# Altium footprint library Pinger Footprints.PcbLib: 11 footprints
Each footprint in its own frame and in the unit in brackets; x right, y up, seen from the top. Pads: shape width x height; smd on the part's side, far side on the other; paste and mask are expansions set on the pad; w line width, h text height; cw(c..) or ccw(c..) is an arc to the next point about the centre after c.
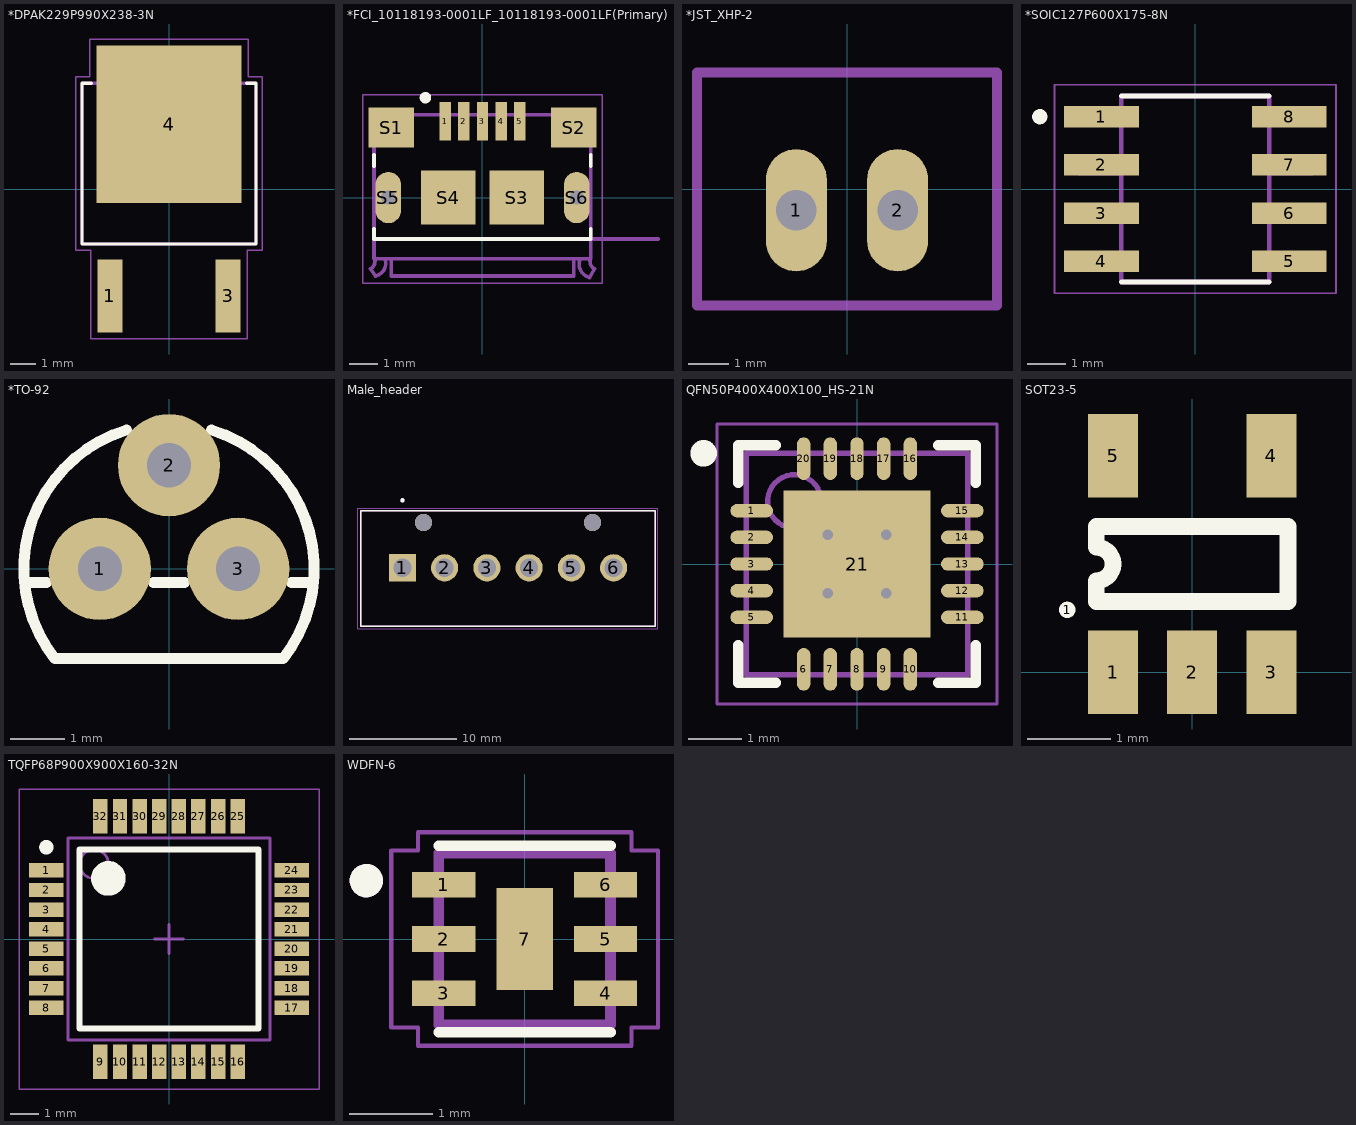
[diagram p0: the footprints below, top view; thin cyan lines are the x and y axes]

## *DPAK229P990X238-3N [mm]
pads (3):
  rect 0.97x2.83 smd: 1(-2.29,-4.14) 3(2.29,-4.14)
  rect 5.63x6.09 smd: 4(0,2.51)
Top Overlay:
  lines w0.127: -3,4.093 -3.37,4.093 -3.37,-2.128 3.37,-2.128 3.37,4.093 3,4.093
Mechanical 4:
  lines w0.127: -3.37,-2.128 -3.37,4.093 ; -3.37,-2.128 3.37,-2.128 ; -3.37,-2.128 -3.37,4.093 ; -3.37,-2.128 3.37,-2.128 ; -3.37,4.093 3.37,4.093 ; -3.37,4.093 3.37,4.093 ; 3.37,-2.128 3.37,4.093 ; 3.37,-2.128 3.37,4.093
Mechanical 16:
  lines w0.05: -3.62,-2.38 -3.62,4.35 -3.07,4.35 -3.07,5.81 3.07,5.81 3.07,4.35 3.62,4.35 3.62,-2.38 3.03,-2.38 3.03,-5.81 -3.03,-5.81 -3.03,-2.38 -3.62,-2.38

## *FCI_10118193-0001LF_10118193-0001LF(Primary) [mm]
pads (13):
  rect 0.4x1.35 smd: 1(-1.3,2.675) 2(-0.65,2.675) 3(0,2.675) 4(0.65,2.675) 5(1.3,2.675)
  round 0.5 hole 0.5 unplated: None(-3.3,0) None(3.3,0)
  rect 1.6x1.4 smd: S1(-3.2,2.45) S2(3.2,2.45)
  rect 1.9x1.9 smd: S3(1.2,0) S4(-1.2,0)
  oval 0.9x1.8 hole 0.5: S5(-3.3,0) S6(3.3,0)
Top Overlay:
  circle w0.2: c-2,3.5 r0.1
  lines w0.127: -3.8,-1.45 3.8,-1.45 ; -3.8,-1.4 -3.8,-1.1 ; -3.8,1.1 -3.8,1.5 ; 3.8,-1.4 3.8,-1.1 ; 3.8,1.1 3.8,1.5
Mechanical 1:
  lines w0: -3.55,-0.35 ccw(c-3.3,-0.35) -3.3,-0.6 ccw(c-3.3,-0.35) -3.05,-0.35 -3.05,0.35 ccw(c-3.3,0.35) -3.3,0.6 ccw(c-3.3,0.35) -3.55,0.35 -3.55,-0.35 ; 3.05,-0.35 ccw(c3.3,-0.35) 3.3,-0.6 ccw(c3.3,-0.35) 3.55,-0.35 3.55,0.35 ccw(c3.3,0.35) 3.3,0.6 ccw(c3.3,0.35) 3.05,0.35 3.05,-0.35
Mechanical 4:
  lines w0.127: -3.8,-2.15 3.8,-2.15 ; -3.8,-2.15 -3.8,-2.1 ; -3.8,-2.15 3.8,-2.15 ; -3.8,-2.15 -3.8,-2.1 ; -3.8,-2.1 cw(c-4.065,-2.235) -3.93,-2.5 ccw(c-4.065,-2.235) -3.8,-2.1 ; -3.8,-2.1 -3.8,2.9 ; -3.8,-2.1 -3.8,2.9 ; -3.8,2.9 3.8,2.9 ; -3.8,2.9 3.8,2.9 ; -3.2,-2.75 -3.2,-2.2 -3.2,-2.75 ; -3.2,-2.75 3.2,-2.75 ; -3.2,-2.75 3.2,-2.75 ; 3.2,-2.75 3.2,-2.2 3.2,-2.75 ; 3.8,-2.15 3.8,-1.45 ; 3.8,-2.15 3.8,-1.45 ; 3.8,-1.45 3.8,2.9 ; 3.8,-1.45 6.15,-1.45 3.8,-1.45 ; 3.8,-1.45 3.8,2.9 ; -3.93,-2.5 -3.75,-2.75 -3.93,-2.5 ; -3.746,-2.749 ccw(c-3.85,-2.3) -3.401,-2.196 cw(c-3.85,-2.3) -3.746,-2.749 ; 3.401,-2.198 ccw(c3.875,-2.325) 3.748,-2.799 cw(c3.875,-2.325) 3.401,-2.198 ; 3.75,-2.8 3.93,-2.5 3.75,-2.8 ; 3.8,-2.1 ccw(c4.065,-2.235) 3.93,-2.5 cw(c4.065,-2.235) 3.8,-2.1
  text "PCB END" at 4.75,-1.55 h1.88
  text "PCB END" at 4.75,-1.55 h1.88
Mechanical 16:
  lines w0.05: -4.2,-3 -4.2,3.6 4.2,3.6 4.2,-3 -4.2,-3

## *JST_XHP-2 [mm]
pads (2):
  oval 1.508x3.016 hole 1: 1(-1.25,-0.525) 2(1.25,-0.525)
Mechanical 4:
  lines w0.254: -3.7,-2.875 -3.7,2.875 ; -3.7,-2.875 3.7,-2.875 ; -3.7,-2.875 -3.7,2.875 ; -3.7,-2.875 3.7,-2.875 ; -3.7,2.875 3.7,2.875 ; -3.7,2.875 3.7,2.875 ; 3.7,-2.875 3.7,2.875 ; 3.7,-2.875 3.7,2.875

## *SOIC127P600X175-8N [mm]
pads (8):
  rect 1.97x0.57 smd: 1(-2.475,1.905) 2(-2.475,0.635) 3(-2.475,-0.635) 4(-2.475,-1.905) 5(2.475,-1.905) 6(2.475,-0.635) 7(2.475,0.635) 8(2.475,1.905)
Top Overlay:
  circle w0.2: c-4.1,1.905 r0.1
  lines w0.127: -1.95,-2.45 1.95,-2.45 ; -1.95,2.45 1.95,2.45
Mechanical 4:
  lines w0: -3.099,-2.159 -2.007,-2.159 ; -3.099,-2.159 -3.099,-1.651 ; -3.099,-2.159 -2.007,-2.159 ; -3.099,-2.159 -3.099,-1.651 ; -3.099,-1.651 -2.007,-1.651 ; -3.099,-1.651 -2.007,-1.651 ; -3.099,-0.889 -2.007,-0.889 ; -3.099,-0.889 -3.099,-0.381 ; -3.099,-0.889 -2.007,-0.889 ; -3.099,-0.889 -3.099,-0.381 ; -3.099,-0.381 -2.007,-0.381 ; -3.099,-0.381 -2.007,-0.381 ; -3.099,0.381 -2.007,0.381 ; -3.099,0.381 -3.099,0.889 ; -3.099,0.381 -2.007,0.381 ; -3.099,0.381 -3.099,0.889 ; -3.099,0.889 -2.007,0.889 ; -3.099,0.889 -2.007,0.889 ; -3.099,1.651 -2.007,1.651 ; -3.099,1.651 -3.099,2.159 ; -3.099,1.651 -2.007,1.651 ; -3.099,1.651 -3.099,2.159 ; -3.099,2.159 -2.007,2.159 ; -3.099,2.159 -2.007,2.159 ; -2.007,-2.159 -2.007,-1.651 ; -2.007,-2.159 -2.007,-1.651 ; -2.007,-0.889 -2.007,-0.381 ; -2.007,-0.889 -2.007,-0.381 ; -2.007,0.381 -2.007,0.889 ; -2.007,0.381 -2.007,0.889 ; -2.007,1.651 -2.007,2.159 ; -2.007,1.651 -2.007,2.159 ; 2.007,-2.159 3.099,-2.159 ; 2.007,-2.159 2.007,-1.651 ; 2.007,-2.159 3.099,-2.159 ; 2.007,-2.159 2.007,-1.651 ; 2.007,-1.651 3.099,-1.651 ; 2.007,-1.651 3.099,-1.651 ; 2.007,-0.889 3.099,-0.889 ; 2.007,-0.889 2.007,-0.381 ; 2.007,-0.889 3.099,-0.889 ; 2.007,-0.889 2.007,-0.381 ; 2.007,-0.381 3.099,-0.381 ; 2.007,-0.381 3.099,-0.381 ; 2.007,0.381 3.099,0.381 ; 2.007,0.381 2.007,0.889 ; 2.007,0.381 3.099,0.381 ; 2.007,0.381 2.007,0.889 ; 2.007,0.889 3.099,0.889 ; 2.007,0.889 3.099,0.889 ; 2.007,1.651 3.099,1.651 ; 2.007,1.651 2.007,2.159 ; 2.007,1.651 3.099,1.651 ; 2.007,1.651 2.007,2.159 ; 2.007,2.159 3.099,2.159 ; 2.007,2.159 3.099,2.159 ; 3.099,-2.159 3.099,-1.651 ; 3.099,-2.159 3.099,-1.651 ; 3.099,-0.889 3.099,-0.381 ; 3.099,-0.889 3.099,-0.381 ; 3.099,0.381 3.099,0.889 ; 3.099,0.381 3.099,0.889 ; 3.099,1.651 3.099,2.159 ; 3.099,1.651 3.099,2.159
  lines w0.127: -1.95,-2.45 -1.95,2.45 ; -1.95,-2.45 1.95,-2.45 ; -1.95,-2.45 -1.95,2.45 ; -1.95,-2.45 1.95,-2.45 ; -1.95,2.45 1.95,2.45 ; -1.95,2.45 1.95,2.45 ; 1.95,-2.45 1.95,2.45 ; 1.95,-2.45 1.95,2.45
Mechanical 16:
  lines w0.05: -3.71,-2.75 -3.71,2.75 3.71,2.75 3.71,-2.75 -3.71,-2.75

## *TO-92 [mil]
pads (3):
  round 74 hole 32: 1(-50,0) 2(0,75) 3(50,0)
Top Overlay:
  lines w8: -104.52,-10 -88.73,-10 ; -82.74,-64.65 cw(c0,0) -30.7,100.41 ; -82.46,-65 82.46,-65 ; -11.27,-10 11.27,-10 ; 30.7,100.41 cw(c0,0) 82.74,-64.64 ; 88.73,-10 104.52,-10

## Male_header [mm]
pads (8):
  rect 2.55x2.55 hole 1.7: 1(28.073,-25.908)
  round 2.55 hole 1.7: 2(32.033,-25.908) 3(35.993,-25.908) 4(39.953,-25.908) 5(43.913,-25.908) 6(47.873,-25.908)
  round 1.63 hole 1.63 unplated: None(30.053,-21.668) None(45.893,-21.668)
Top Overlay:
  circle w0.2: c28.073,-19.578 r0.1
  lines w0.127: 24.163,-31.378 24.163,-20.578 51.783,-20.578 51.783,-31.378 24.163,-31.378
Mechanical 4:
  circle w0.2: c28.073,-19.578 r0.1
  circle w0.2: c28.073,-19.578 r0.1
  lines w0.127: 24.163,-31.378 24.163,-20.578 ; 24.163,-31.378 51.783,-31.378 ; 24.163,-31.378 24.163,-20.578 ; 24.163,-31.378 51.783,-31.378 ; 24.163,-20.578 51.783,-20.578 ; 24.163,-20.578 51.783,-20.578 ; 51.783,-31.378 51.783,-20.578 ; 51.783,-31.378 51.783,-20.578
Mechanical 16:
  lines w0.05: 23.913,-31.628 23.913,-20.328 52.033,-20.328 52.033,-31.628 23.913,-31.628

## PCBComponent_1 [mm]

## QFN50P400X400X100_HS-21N [mm] "QFN, 20-Leads, Body 4.00x4.00mm, Pitch 0.50mm, Thermal Pad 2.75x2.75mm, IPC Medium Density"
height 1
pads (21):
  oval 0.8x0.25 smd: 1(-1.975,1) 2(-1.975,0.5) 3(-1.975,0) 4(-1.975,-0.5) 5(-1.975,-1) 11(1.975,-1) 12(1.975,-0.5) 13(1.975,0) 14(1.975,0.5) 15(1.975,1)
  oval 0.25x0.8 smd: 6(-1,-1.975) 7(-0.5,-1.975) 8(0,-1.975) 9(0.5,-1.975) 10(1,-1.975) 16(1,1.975) 17(0.5,1.975) 18(0,1.975) 19(-0.5,1.975) 20(-1,1.975)
  rect 2.75x2.75 smd: 21(0,0)
via -0.55,0.55 diameter 0.5 hole 0.2
via 0.55,0.55 diameter 0.5 hole 0.2
via -0.55,-0.55 diameter 0.5 hole 0.2
via 0.55,-0.55 diameter 0.5 hole 0.2
Top Overlay:
  circle w0.25: c-2.875,2.075 r0.125
  lines w0.2: -2.225,-1.525 -2.225,-2.225 -1.525,-2.225 ; -2.225,1.525 -2.225,2.225 -1.525,2.225 ; 1.525,-2.225 2.225,-2.225 2.225,-1.525 ; 1.525,2.225 2.225,2.225 2.225,1.525
Mechanical 13:
  circle w0.1: c-1.175,1.175 r0.5
  lines w0.1: -2.075,-2.075 -2.075,2.075 2.075,2.075 2.075,-2.075 -2.075,-2.075
Mechanical 15:
  lines w0.05: -2.625,-2.625 -2.625,2.625 2.625,2.625 2.625,-2.625 -2.625,-2.625
  lines w0.1: -0.5,0 0.5,0 ; 0,-0.5 0,0.5
3D body "QFN50P400X400X100_HS-21N.step": height 1, standoff 0, extent -2.085,-2.085 2.085,2.085

## SOT23-5 [mm] "SOT143-4 as used in SP0503BAHTG"
pads (6):
  round 0.2 on Top Overlay: 1(-1.5,0.75)
  rect 0.6x1 smd: 1(-0.95,0) 2(0,0) 3(0.95,0) 4(0.95,2.6) 5(-0.95,2.6)
Top Overlay:
  lines w0.2: -1.15,0.85 -1.15,1.1 ccw(c-1.15,1.3) -1.15,1.5 -1.15,1.75 1.15,1.75 1.15,0.85 -1.15,0.85
3D body "SOT235.step": height 1, standoff 0, extent -1.46,0.13 1.46,2.47

## TQFP68P900X900X160-32N [mm] "TQFP, 32-Leads, Body 7.00x7.00mm, Pitch 0.68mm, IPC Medium Density"
height 1.6
pads (32):
  rect 1.2x0.5 smd: 1(-4.25,2.38) 2(-4.25,1.7) 3(-4.25,1.02) 4(-4.25,0.34) 5(-4.25,-0.34) 6(-4.25,-1.02) 7(-4.25,-1.7) 8(-4.25,-2.38) 17(4.25,-2.38) 18(4.25,-1.7) 19(4.25,-1.02) 20(4.25,-0.34) 21(4.25,0.34) 22(4.25,1.02) 23(4.25,1.7) 24(4.25,2.38)
  rect 0.5x1.2 smd: 9(-2.38,-4.25) 10(-1.7,-4.25) 11(-1.02,-4.25) 12(-0.34,-4.25) 13(0.34,-4.25) 14(1.02,-4.25) 15(1.7,-4.25) 16(2.38,-4.25) 25(2.38,4.25) 26(1.7,4.25) 27(1.02,4.25) 28(0.34,4.25) 29(-0.34,4.25) 30(-1.02,4.25) 31(-1.7,4.25) 32(-2.38,4.25)
Top Overlay:
  circle w0.25: c-4.25,3.18 r0.125
  circle w0.6: c-2.1,2.1 r0.3
  lines w0.2: -3.1,-3.1 -3.1,3.1 3.1,3.1 3.1,-3.1 -3.1,-3.1
Mechanical 13:
  circle w0.1: c-2.6,2.6 r0.5
  lines w0.1: -3.5,-3.5 -3.5,3.5 3.5,3.5 3.5,-3.5 -3.5,-3.5
Mechanical 15:
  lines w0.05: -5.2,-5.2 -5.2,5.2 5.2,5.2 5.2,-5.2 -5.2,-5.2
  lines w0.1: -0.5,0 0.5,0 ; 0,-0.5 0,0.5
3D body "TQFP68P900X900X160-32N.step": height 1.6, standoff 0, extent -4.5,-4.5 4.5,4.5

## WDFN-6 [mm]
pads (7):
  rect 0.76x0.31 smd: 1(-0.97,0.65) 2(-0.97,0) 3(-0.97,-0.65) 4(0.97,-0.65) 5(0.97,0) 6(0.97,0.65)
  rect 0.675x1.225 smd: 7(0,0)
Top Overlay:
  circle w0.2: c-1.9,0.7 r0.1
  lines w0.127: -1.03,-1.12 1.03,-1.12 ; -1.03,1.12 1.03,1.12
Top Paste:
  region: -0.212,0.487 0.212,0.487 0.212,-0.487 -0.212,-0.487
Mechanical 4:
  circle w0.2: c-1.9,0.7 r0.1
  circle w0.2: c-1.9,0.7 r0.1
  lines w0.127: -1.03,-1.03 -1.03,1.03 ; -1.03,-1.03 1.03,-1.03 ; -1.03,-1.03 -1.03,1.03 ; -1.03,-1.03 1.03,-1.03 ; -1.03,1.03 1.03,1.03 ; -1.03,1.03 1.03,1.03 ; 1.03,-1.03 1.03,1.03 ; 1.03,-1.03 1.03,1.03
Mechanical 16:
  lines w0.05: -1.6,-1.06 -1.28,-1.06 -1.28,-1.28 1.28,-1.28 1.28,-1.06 1.6,-1.06 1.6,1.06 1.28,1.06 1.28,1.28 -1.28,1.28 -1.28,1.06 -1.6,1.06 -1.6,-1.06